# Altium footprint library CAPMP7361X375.PcbLib: 1 footprints
Each footprint in its own frame and in the unit in brackets; x right, y up, seen from the top. Pads: shape width x height; smd on the part's side, far side on the other; paste and mask are expansions set on the pad; w line width, h text height; cw(c..) or ccw(c..) is an arc to the next point about the centre after c.
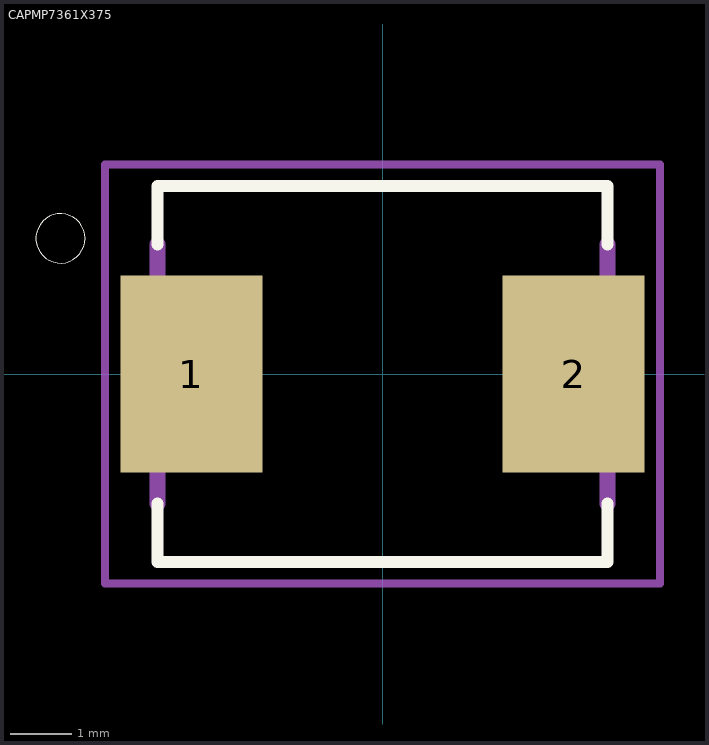
[diagram p0: the footprint, top view; thin cyan lines are the x and y axes]

## CAPMP7361X375 [mm]
pads (2):
  rect 2.3x3.2 smd: 1(-3.1,0) 2(3.1,0)
Top Overlay:
  circle w0: c-5.225,2.2 r0.4
  lines w0.2: -3.65,-2.1 -3.65,-3.05 3.65,-3.05 3.65,-2.1 ; -3.65,2.1 -3.65,3.05 3.65,3.05 3.65,2.1
Mechanical 4:
  lines w0.254: -3.65,-2.1 -3.65,2.1 -3.65,-2.1 ; 3.65,-2.1 3.65,2.1 3.65,-2.1
Mechanical 16:
  lines w0.127: -4.5,-3.4 -4.5,3.4 4.5,3.4 4.5,-3.4 -4.5,-3.4